# Altium schematic symbol library Conectores.SchLib: 21 symbols
Pins are listed as number, name and electrical type; pins without a type are passive.

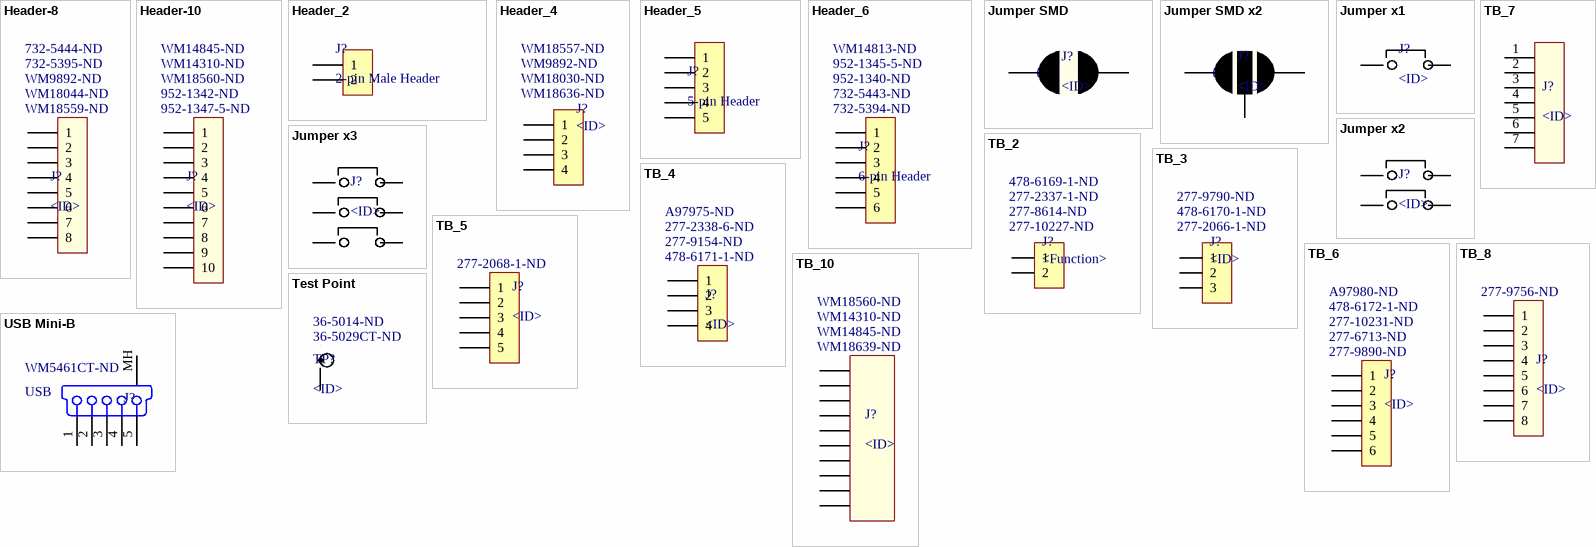
[diagram p0: symbols Header-8 to USB Mini-B]

## Header-8
designator J?, comment <ID>  Supplier Part Number 1: WM18559-ND  Supplier Part Number 2: WM18044-ND  Supplier Part Number 3: WM9892-ND  Supplier Part Number 4: 732-5395-ND  Supplier Part Number 5: 732-5444-ND
8-pins Header; Supplier 1: Digi-Key; Supplier 2: Digi-Key; Supplier 3: Digi-Key; Supplier 4: Digi-Key; Supplier 5: Digi-Key
footprint IDC-08-SMALL (8 Positions Header Connector 0.079" (2.00mm) Through Hole Gold)
footprint IDC-08 (IDC connector 8 ways)
pins: 1, 2, 3, 4, 5, 6, 7, 8

## Header-10
designator J?, comment <ID>  Supplier Part Number 1: 952-1347-5-ND  Supplier Part Number 2: 952-1342-ND  Supplier Part Number 3: WM18560-ND  Supplier Part Number 4: WM14310-ND  Supplier Part Number 5: WM14845-ND
10-pins Header; Supplier 1: Digi-Key; Supplier 2: Digi-Key; Supplier 3: Digi-Key; Supplier 4: Digi-Key; Supplier 5: Digi-Key
footprint HEADER-FEMALE-SMD-10P (10 Position Connector Plug, Outer Shroud Contacts Surface Mount Gold)
footprint HEADER-MALE-SMD-10P (10 Positions Header, Cuttable Connector 0.079" (2.00mm) Surface Mount Gold)
footprint IDC-10-SMD (10 Positions Header Connector 0.079" (2.00mm) Surface Mount Gold)
footprint IDC-10-SMALL (10 Positions Header Connector 0.079" (2.00mm) Through Hole Gold)
pins: 1, 2, 3, 4, 5, 6, 7, 8, 9, 10

## Header_2
designator J?, comment 2-pin Male Header
footprint Header_2 (2-pin Male Header)
footprint Header_2 - v2 (2-pin Male Header - No shunt)
footprint Antenna - B2B-XH (2-pin Header for RDM6300 Antenna)
pins: 1, 2

## Header_4
designator J?, comment <ID>  Supplier Part Number 1: WM18636-ND  Supplier Part Number 2: WM18030-ND  Supplier Part Number 3: WM9892-ND  Supplier Part Number 4: WM18557-ND
4-pin Header; Supplier 1: Digi-Key; Supplier 2: Digi-Key; Supplier 3: Digi-Key; Supplier 4: Digi-Key
footprint HEADER_4 (4-pin male header)
footprint IDC-04-SMD (4 Positions Header Connector 0.079" (2.00mm) Surface Mount Gold)
footprint IDC-04-SMALL (4 Positions Header Connector 0.079" (2.00mm) Through Hole Gold)
pins: 1, 2, 3, 4

## Header_5
designator J?, comment 5-pin Header
5-pin male header
footprint HEADER_5 (5-pin male header)
pins: 1, 2, 3, 4, 5

## Header_6
designator J?, comment 6-pin Header  Supplier Part Number 1: 732-5394-ND  Supplier Part Number 2: 732-5443-ND  Supplier Part Number 3: 952-1340-ND  Supplier Part Number 4: 952-1345-5-ND  Supplier Part Number 5: WM14813-ND
6-pin male header; Supplier 1: Digi-Key; Supplier 2: Digi-Key; Supplier 3: Digi-Key; Supplier 4: Digi-Key; Supplier 5: Digi-Key
footprint Header-3x2 (HEADER, 2X3, 2.54MM X 2.54MM PITCH, VERT, TH)
footprint IDC-06 (IDC connector 6 ways)
footprint HEADER-FEMALE-SMD-6P (6 Position Receptacle, Bottom or Top Entry Connector Gold 2.00mm Surface Mount)
footprint HEADER-MALE-SMD-6P (6 Positions Header, Cuttable Connector 2.00mm Surface Mount Gold)
footprint IDC-06-SMD (6 Positions Header Connector 0.079" (2.00mm) Surface Mount Gold)
pins: 1, 2, 3, 4, 5, 6

## Jumper SMD
designator J?, comment <ID>
Jumper simple 2 vías
footprint Jumper SMD - NO (1x2 SMD Solder Jumper)
pins: 1, 2

## Jumper SMD x2
designator J?, comment <ID>
Jumper simple 3 vías
footprint Jumper SMD - Switch (Jumper SMD - Switch (2 positions))
pins: 1, 2, 3

## Jumper x1
designator J?, comment <ID>
1 Jumper (2 pins)
footprint HEADER_2_SMD (Archer Connectors – M50 - CONN HDR 1.27MM SMD)
footprint Jumper SMD - NO (Jumper SMD - Normally Open)
pins: 1, 2

## Jumper x2
designator J?, comment <ID>
2 Jumpers (4 pins)
footprint HEARDER_4_SMD (Archer Connectors – M50 - CONN HDR 1.27MM SMD)
pins: 1, 2, 3, 4

## Jumper x3
designator J?, comment <ID>
3 Jumpers (6 pins)
footprint HEARDER_6_SMD (Archer Connectors – M50 - CONN HDR 1.27MM SMD)
pins: 1, 2, 3, 4, 5, 6

## TB_2
designator J?, comment <Function>  Supplier Part Number 1: 277-10227-ND  Supplier Part Number 2: 277-8614-ND  Supplier Part Number 3: 277-2337-1-ND  Supplier Part Number 4: 478-6169-1-ND
Terminal Block 2 ways; Supplier 1: Digi-Key; Supplier 2: Digi-Key; Supplier 3: Digi-Key; Supplier 4: Digi-Key
footprint TB_2
footprint TB_2_v2 (Terminal Block 2 ways)
footprint TB_SMD_2V (PC terminal block, 6 A, 160 V, Pitch: 2.5  mm, Spring-cage conn.,  SMD)
footprint Poke Home H2 (AVX Poke-Home: Horizontal 18-26 AWG: WTB - 2 ways)
footprint TB_SPT - 2 (PCB terminal block, Nominal current: 41 A, Nom. voltage: 1000 V, Pitch: 7.5 mm, Number of positions: 2,  Connection method: Spring-cage conn., Mounting: Soldering, Conductor/PCB connection direction: 0 °)
pins: 1, 2

## TB_3
designator J?, comment <ID>  Supplier Part Number 1: 277-2066-1-ND  Supplier Part Number 2: 478-6170-1-ND  Supplier Part Number 3: 277-9790-ND
3-ways Terminal Block; Supplier 1: Digi-Key; Supplier 2: Digi-Key; Supplier 3: Digi-Key
footprint TB_3 (Terminal Block 3 Ways)
footprint TB3_v2 (Terminal Block 3 ways)
footprint HEADER_3_v2 (3-pin Male Header)
footprint TB_SMD_3v (PC terminal block, 6 A, 32 V, Pitch: 2.5  mm, Spring-cage conn.,  SMD)
footprint AC INLET GSP1.8 (AC Power Connector GSP1.8 C14)
footprint Poke Home H3 (AVX Poke-Home: Horizontal 18-26 AWG: WTB - 3 ways)
footprint TB-SPT-03 (PCB terminal block, Nominal current: 41 A, Nom. voltage: 1000 V, Pitch: 7.5 mm, Number of positions: 2,  Connection method: Spring-cage conn., Mounting: Soldering, Conductor/PCB connection direction: 0 °)
pins: 1, 2, 3

## TB_4
designator J?, comment <ID>  Supplier Part Number 1: 478-6171-1-ND  Supplier Part Number 2: 277-9154-ND  Supplier Part Number 3: 277-2338-6-ND  Supplier Part Number 4: A97975-ND
4-ways Terminal Block; Supplier 1: Digi-Key; Supplier 2: Digi-Key; Supplier 3: Digi-Key; Supplier 4: Digi-Key
footprint Poke Home H4 (AVX Poke-Home: Horizontal 18-26 AWG: WTB - 4 ways)
footprint TB-SPT-04 (PCB terminal block, Nominal current: 41 A, Nom. voltage: 1000 V, Pitch: 7.5 mm, Number of positions: 4,  Connection method: Spring-cage conn., Mounting: Soldering, Conductor/PCB connection direction: 0 °)
footprint TB_SPTA-4p (PCB terminal block, Nominal current: 41 A, Nom. voltage: 1000 V, Pitch: 7.5 mm, Number of positions: 4,  Connection method: Push-in connection, Mounting: Soldering, Conductor/PCB connection direction: 30 °)
footprint TB_SMD_4v (PC terminal block, 6 A, 32 V, Pitch: 2.5  mm, Spring-cage conn.,  SMD)
footprint TB-4-SMALL (4 Position Wire to Board Terminal Block Horizontal with Board 0.138" (3.50mm) Through Hole)
pins: 1, 2, 3, 4

## TB_5
designator J?, comment <ID>  Supplier Part Number 1: 277-2068-1-ND
5-ways Terminal Block; Supplier 1: Digi-Key
footprint TB_SMD_5v (PC terminal block, 6 A, 32 V, Pitch: 2.5  mm, Spring-cage conn.,  SMD)
pins: 1, 2, 3, 4, 5

## TB_6
designator J?, comment <ID>  Supplier Part Number 1: 277-9890-ND  Supplier Part Number 2: 277-6713-ND  Supplier Part Number 3: 277-10231-ND  Supplier Part Number 4: 478-6172-1-ND  Supplier Part Number 5: A97980-ND
6-ways Terminal Block; Supplier 1: Digi-Key; Supplier 2: Digi-Key; Supplier 3: Digi-Key; Supplier 4: Digi-Key; Supplier 5: Digi-Key
footprint Molex (Molex 6 ways 2 rows 90 deg)
footprint TB6_v1 (Terminal Block 6 ways)
footprint TB6_v2 (Terminal Block 6 ways)
footprint TB_SPTA (PCB terminal block, Nominal current: 41 A, Nom. voltage: 1000 V, Pitch: 7.5 mm, Number of positions: 2,  Connection method: Push-in connection, Mounting: Soldering, Conductor/PCB connection direction: 30 °)
footprint TB_PLA (PCB terminal block, Nominal current: 41 A, Nom. voltage: 1000 V, Pitch: 7.5 mm, Number of positions: 1,  Connection method: Spring-cage conn., Mounting: Soldering, Conductor/PCB connection direction: 0 °)
footprint TB_SPT (PCB terminal block, Nominal current: 41 A, Nom. voltage: 1000 V, Pitch: 7.5 mm, Number of positions: 2,  Connection method: Spring-cage conn., Mounting: Soldering, Conductor/PCB connection direction: 0 °)
footprint Poke Home H6 (AVX Poke-Home: Horizontal 18-26 AWG: WTB - 6 ways)
footprint TB-6-SMALL (6 Position Wire to Board Terminal Block Horizontal with Board 0.150" (3.81mm) Through Hole)
pins: 1, 2, 3, 4, 5, 6

## TB_7
designator J?, comment <ID>
7-ways Terminal Block
footprint TB_SMD_7v (PC terminal block, 6 A, 32 V, Pitch: 2.5  mm, Spring-cage conn.,  SMD)
pins: 1, 2, 3, 4, 5, 6, 7

## TB_8
designator J?, comment <ID>  Supplier Part Number 1: 277-9756-ND
8-ways Terminal Block; Supplier 1: Digi-Key
footprint FPC08R (FFC / FPC 8 ways 2.54mm LIF DIP horizontal)
footprint TB-SPT-08 (PCB terminal block, Nominal current: 41 A, Nom. voltage: 1000 V, Pitch: 7.5 mm, Number of positions: 4,  Connection method: Spring-cage conn., Mounting: Soldering, Conductor/PCB connection direction: 0 °)
pins: 1, 2, 3, 4, 5, 6, 7, 8

## TB_10
designator J?, comment <ID>  Supplier Part Number 1: WM18639-ND  Supplier Part Number 2: WM14845-ND  Supplier Part Number 3: WM14310-ND  Supplier Part Number 4: WM18560-ND
10-ways Terminal Block; Supplier 1: Digi-Key; Supplier 2: Digi-Key; Supplier 3: Digi-Key; Supplier 4: Digi-Key
footprint IDC-10 (IDC connector 10 ways)
pins: 1, 2, 3, 4, 5, 6, 7, 8, 9, 10

## Test Point
designator TP?, comment <ID>  Supplier Part Number 1: 36-5029CT-ND  Supplier Part Number 2: 36-5014-ND
Test Point for Measurement; Supplier 1: Digi-Key; Supplier 2: Digi-Key
footprint TP_SMD_5029 (PC TEST POINT MINI SMD, Keystone Electronics 5029)
footprint TP_5014 (TEST POINT PC MULTI PURPOSE YEL, Keystone Electronics 5014)
pins: 1

## USB Mini-B
designator J?, comment USB  Supplier Part Number 1: WM5461CT-ND
USB On-The-Go (OTG) Mini-B Receptacle, Right Angle, Thru-Hole, 0.80mm (.031") Pitch, Solder Tails & Shell Tabs with Dimples; PCB_Layout: Complies with Manufacturer's Recommendation.; Published: 30-May-2008; DatasheetVersion: rev0, Mar-2004; PackageVersion: rev0, Mar-2004; PackageReference: 5000750517; Publisher: Altium Limited; PackageDescription: USB Mini-B, Type 2, Thru-Hole; 5 Position; Vertical, Body 7.7 x 4.2 x 7.7 mm (LxWxH); ComponentLink1Description: Manufacturer Link; ComponentLink1URL: http://www.molex.com/; ComponentLink2Description: Datasheet; ComponentLink2URL: http://www.molex.com/pdm_docs/sd/5000750517_sd.pdf; Supplier 1: Digi-Key
footprint USB Mini-B SMD (USB Series Mini-B Receptacle)
footprint USB Mini-B THT (USB Series Mini-B Receptacle)
pins: 1 V BUS (5V) "USB Vcc [Red]", 2 D- "USB Data - [White]", 3 D+ "USB Data + [Green]", 4 NC "Not Connected (or joined to pin 5 via resistor)", 5 GND "Ground [Black]", MH Tab "Shell"